# Altium schematic symbol library CapacitorsPakeista.schlib: 9 symbols
Pins are listed as number, name and electrical type; pins without a type are passive.

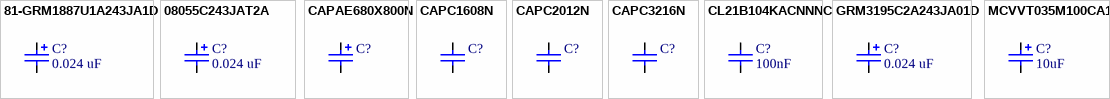
[diagram p0: symbols 81-GRM1887U1A243JA1D to MCVVT035M100CA1L]

## 81-GRM1887U1A243JA1D
designator C?, comment 0.024 uF
CAP Chip Multilayer Ceramic Capacitor for General Purpose, 0.024uF, 10V,  0603 (1608 metric); Manufacturer: Murata Electronics; Manufacturer Part Number: GRM1887U1A243JA01D; Voltage: 10 VDC; Tolerance: 5 %; Dielectric: U2J; Value: 0.024 uF; Package: 0603 (1608 metric); Supplier 1: Mouser; Supplier Part Number 1: 81-GRM1887U1A243JA1D; ComponentLink1Description: https://eu.mouser.com/datasheet/2/281/1/GRM1887U1A243JA01_01A-1985605.pdf; ComponentLink1URL: https://eu.mouser.com/ProductDetail/Murata-Electronics/GRM1887U1A243JA01D/?qs=ui%252B2d9lVEI5YGHIEW3U78Q%3D%3D; Date: 2020-03-01; Mounting: SMD; Part Type: Chip Multilayer Ceramic Capacitor for General Purpose
footprint CAPAE530X540N (Capacitor, Aluminium Electrolytric, 5.3mm L X 5.3mm W X 5.4mm H, IPC Medium Density)
pins: 1, 2

## 08055C243JAT2A
designator C?, comment 0.024 uF
CAP X7R MLC Capacitors, 0.024uF, 50 VDC, 0805 [2012]; Manufacturer: AVX; Manufacturer Part Number: 08055C243JAT2A; Voltage: 50 VDC; Tolerance: 5 %; Value: 0.024 uF; Package: 0805 [2012]; Supplier 1: Mouser; Supplier Part Number 1: 581-08055C243JAT2A; ComponentLink1Description: https://eu.mouser.com/datasheet/2/40/X7RDielectric-777024.pdf; ComponentLink1URL: https://eu.mouser.com/ProductDetail/AVX/08055C243JAT2A/?qs=sGAEpiMZZMuMW9TJLBQkXsc7mecWxmGaZ7S9zCM%2FAxU%3D; Date: 2020-03-01; Dielectric: X7R; Mounting: SMD; Part Type: X7R MLC Capacitors
footprint CAPAE430X540N (Capacitor, Aluminium Electrolytric, 4.3mm L X 4.3mm W X 5.4mm H, IPC Medium Density)
pins: 1, 2

## CAPAE680X800N
designator C?
CAP Aluminium Electrolytic, 10uF, 35V, 6.8mm L X 6.8mm W X 8mm H; Package: 6.8mm L X 6.8mm W X 8mm H; ComponentLink1Description: Datasheet; Dielectric: Aluminium; Mounting: SMD; Part Type: Electrolytic
footprint CAPAE680X800N (Capacitor, Aluminium Electrolytric, 6.8mm L X 6.8mm W X 8mm H, IPC Medium Density)
pins: 1, 2

## CAPC1608N
designator C?
CAP MLCC, 100nF, 25V, 0603 [1608 metric], ±10%, X7R; Package: 0603 [1608 metric]; ComponentLink1Description: Datasheet; Mounting: SMD; Part Type: MLCC
footprint CAPC1608N (Chip Capacitor, Body 1.6x0.8mm, Height 0.55mm, IPC Medium Density)
pins: 1, 2

## CAPC2012N
designator C?
CAP MLCC, 100nF, 25V, 0805 [2012 metric], ±10%, X7R; Package: 0805 [2012 metric]; ComponentLink1Description: Datasheet; Mounting: SMD; Part Type: MLCC
footprint CAPC2012N (Chip Capacitor, Body 2.0x1.25mm, IPC Medium Density)
pins: 1, 2

## CAPC3216N
designator C?
CAP MLCC, 100nF, 25V, 1206 [3216 metric], ±10%, X7R; Package: 1206 [3216 metric]; ComponentLink1Description: Datasheet; Mounting: SMD; Part Type: MLCC
footprint CAPC3216N (Chip Capacitor, Body 3.2x1.6mm, IPC Medium Density)
pins: 1, 2

## CL21B104KACNNNC
designator C?, comment 100nF
CAP MLCC, 100nF, 25V, 0805 [2012 metric], ±10%, X7R; Manufacturer: SAMSUNG ELECTRO-MECHANICS; Manufacturer Part Number: CL21B104KACNNNC; Value: 100nF; Package: 0805 [2012 metric]; Supplier 1: Farnell; Supplier Part Number 1: 3010149; ComponentLink1Description: Datasheet; ComponentLink1URL: http://www.farnell.com/datasheets/2710651.pdf; Voltage: 25V; Tolerance: ±10%; Dielectric: X7R; Mounting: SMD; Part Type: MLCC
footprint CAPC2012N (Chip Capacitor, Body 2.0x1.25mm, IPC Medium Density)
pins: 1, 2

## GRM3195C2A243JA01D
designator C?, comment 0.024 uF
CAP Chip Multilayer Ceramic Capacitor, 0.024uF, 100VDC, 1206 (3216 metric); Manufacturer: Murata; Manufacturer Part Number: GRM3195C2A243JA01D; Tolerance: 5 %; Dielectric: C0G (NP0); Value: 0.024 uF; Package: 1206 (3216 metric); Supplier 1: Mouser; Supplier Part Number 1: 81-GRM3195C2A243JA1D; ComponentLink1Description: https://eu.mouser.com/datasheet/2/281/1/GRM3195C2A243JA01_01A-1987123.pdf; ComponentLink1URL: https://eu.mouser.com/ProductDetail/Murata-Electronics/GRM3195C2A243JA01D/?qs=qkDYIeTQ%252BEk%2Fn3fDsYoCdQ%3D%3D; Date: 2020-03-01; Voltage: 100 VDC; Mounting: SMD; Part Type: Chip Multilayer Ceramic Capacitor
footprint CAPAE660X540N (Capacitor, Aluminium Electrolytric, 6.6mm L X 6.6mm W X 5.4mm H, IPC Medium Density)
pins: 1, 2

## MCVVT035M100CA1L
designator C?, comment 10uF
CAP Aluminium Electrolytic, 10uF, 35V, 4.3mm L x 4.3mm W x W 5.4mm H; Manufacturer: MULTICOMP PRO; Manufacturer Part Number: MCVVT035M100CA1L; Value: 10uF; Package: 4.3mm L x 4.3mm W x W 5.4mm H; Supplier 1: Farnell; Supplier Part Number 1: 2611379; ComponentLink1Description: Datasheet; ComponentLink1URL: http://www.farnell.com/datasheets/2873546.pdf; Voltage: 35V; Dielectric: Aluminium; Mounting: SMD; Part Type: Electrolytic
footprint CAPAE430X540N (Capacitor, Aluminium Electrolytric, 4.3mm L X 4.3mm W X 5.4mm H, IPC Medium Density)
pins: 1, 2